# Altium footprint library QSOP16.PcbLib: 1 footprints
Each footprint in its own frame and in the unit in brackets; x right, y up, seen from the top. Pads: shape width x height; smd on the part's side, far side on the other; paste and mask are expansions set on the pad; w line width, h text height; cw(c..) or ccw(c..) is an arc to the next point about the centre after c.
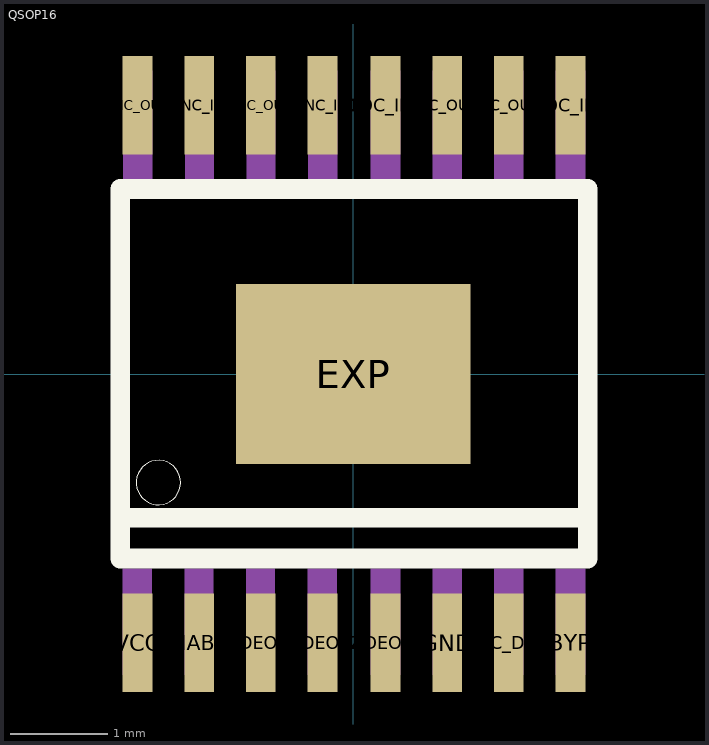
[diagram p0: the footprint, top view; thin cyan lines are the x and y axes]

## QSOP16 [mil]
pads (17):
  rect 12x40 smd: BYP(88,-108.96) DDC_IN1(88,109) DDC_IN2(13,109) DDC_OUT1(63,109) DDC_OUT2(38,109) ENABLE(-62.5,-108.96) GND(38,-108.96) SYNC_IN1(-12.5,109) SYNC_IN2(-62.5,109) SYNC_OUT1(-37.5,109) SYNC_OUT2(-87.5,109) VCC(-87.5,-108.96) VCC_DDC(63,-108.96) VIDEO_1(-37.5,-108.96) VIDEO_2(-12.5,-108.96) VIDEO_3(13,-108.96)
  rect 95x73 smd: EXP(0,0)
Top Overlay:
  circle w0: c-79.04,-44 r9
  lines w8: -94.49,-58.27 95,-58.27 ; 95,-58.27 95,75 -94.49,75 -94.49,-74.8 95,-74.8 95,-58.27
Mechanical 2:
  text "CM2006" at -150,-212.5 h77.5
Mechanical 16:
  rectangle: -93.5,-122.05 -81.69,-78.74
  rectangle: -68.5,-122.05 -56.69,-78.74
  rectangle: -43.5,-122.05 -31.69,-78.74
  rectangle: -18.5,-122.05 -6.69,-78.74
  rectangle: 7,-122.05 19,-78.74
  rectangle: 32,-122.05 44,-78.74
  rectangle: 57,-122.05 69,-78.74
  rectangle: 82,-122.05 94,-78.74
  region: 94,123 82,123 82,79 94,79
  region: 69,123 57,123 57,79 69,79
  region: 44,123 32,123 32,79 44,79
  region: 19,123 7,123 7,79 19,79
  region: -6.5,123 -18.31,123 -18.31,79 -6.5,79
  region: -31.5,123 -43.31,123 -43.31,79 -31.5,79
  region: -56.5,123 -68.31,123 -68.31,79 -56.5,79
  region: -81.5,123 -93.31,123 -93.31,79 -81.5,79